# Altium schematic symbol library CRCW080526K7FKEA.SchLib: 1 symbol
Pins are listed as number, name and electrical type; pins without a type are passive.

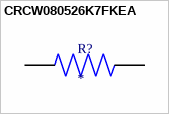
[diagram p0: symbol CRCW080526K7FKEA]

## CRCW080526K7FKEA
designator R?
RES, THICK FILM, 26K7, 1%, 0.125W, 0805, REEL; MP: CRCW080526K7FKEA; Package: None; Price: None; Value: *; Availability: Unavailable
footprint RESC2012X50N
pins: 1, 2